# Altium footprint library custom-case.PcbLib: 168 footprints (part 1 of 11)
Each footprint in its own frame and in the unit in brackets; x right, y up, seen from the top. Pads: shape width x height; smd on the part's side, far side on the other; paste and mask are expansions set on the pad; w line width, h text height; cw(c..) or ccw(c..) is an arc to the next point about the centre after c.
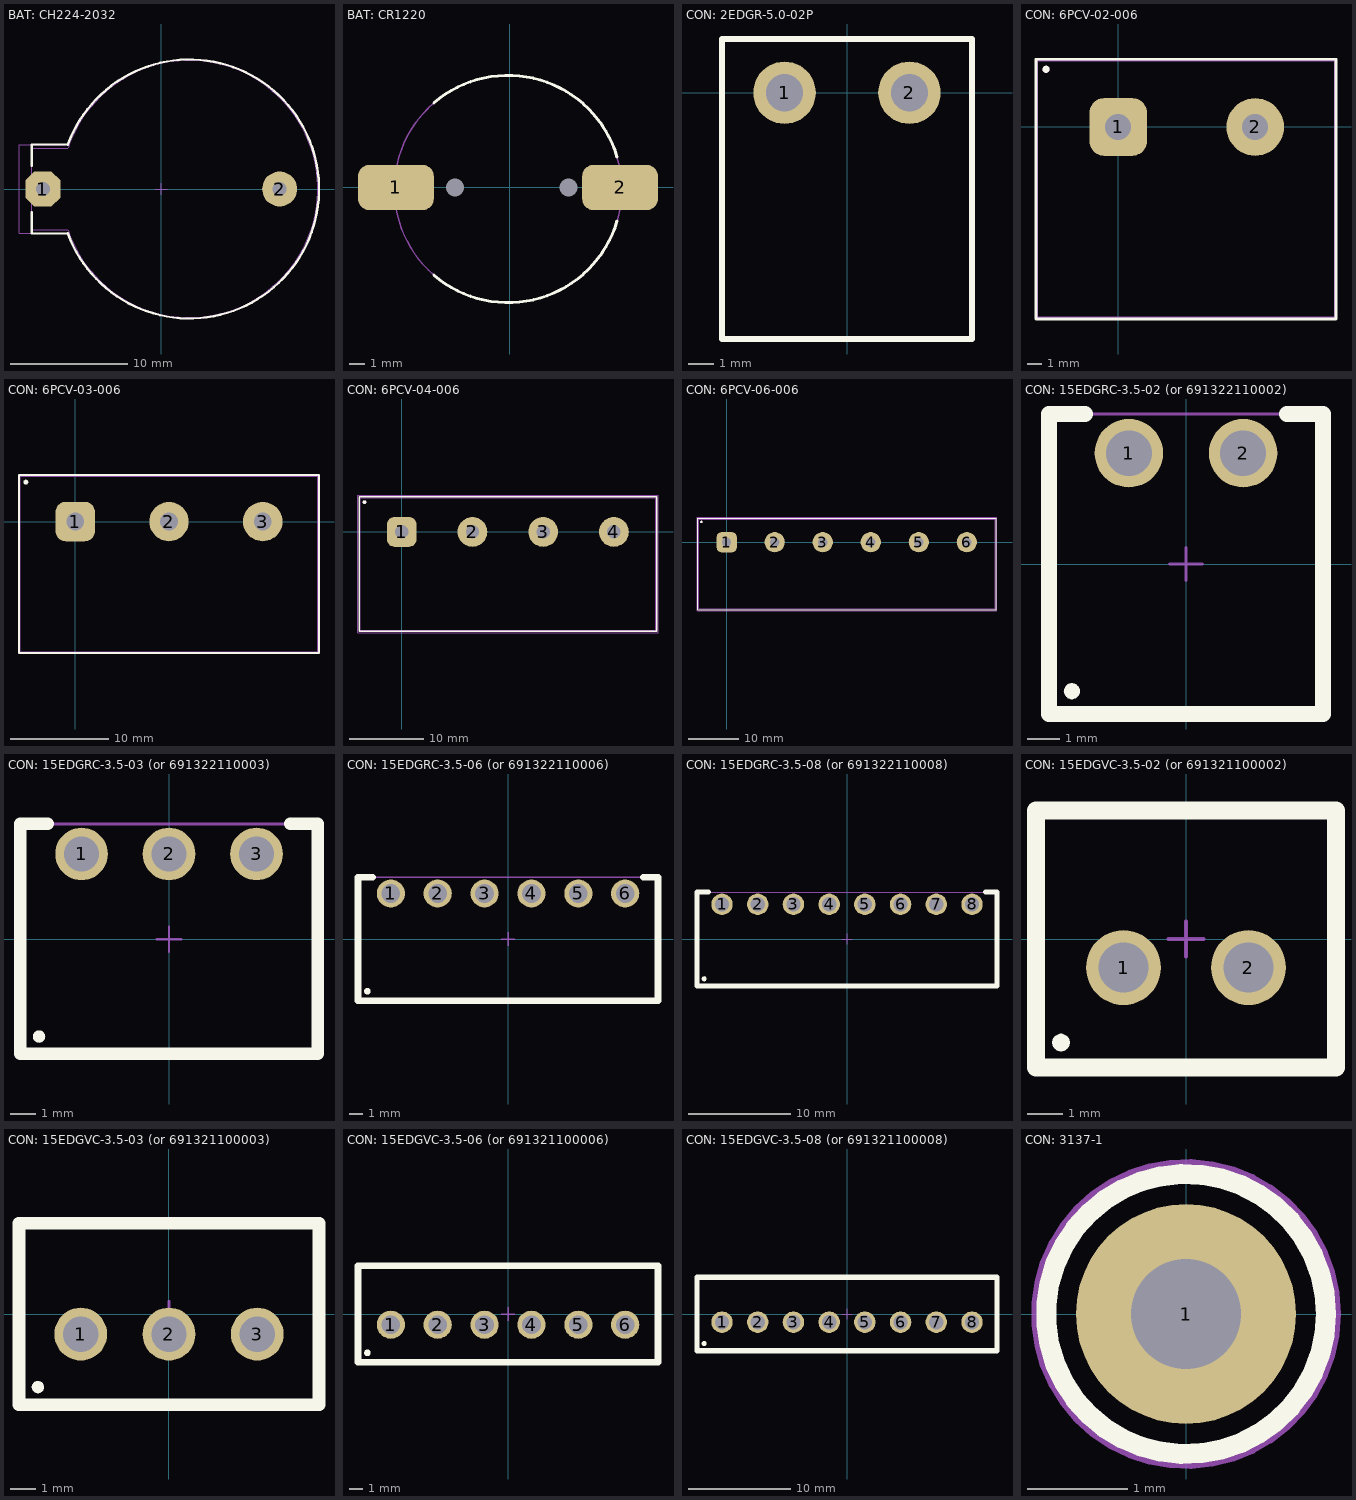
[diagram p0: the footprints below, top view; thin cyan lines are the x and y axes]

## BAT: CH224-2032 [mm] "пїЅпїЅпїЅпїЅпїЅпїЅпїЅпїЅпїЅпїЅ пїЅпїЅпїЅпїЅпїЅ пїЅпїЅпїЅ пїЅпїЅпїЅпїЅпїЅпїЅпїЅпїЅ 2032"
height 9
pads (2):
  oct 3x3 hole 1.2: 1(-10.151,0)
  round 3 hole 1.2: 2(10.152,0)
Top Overlay:
  lines w0.2: -11.1,-2 -11.1,-3.81 -8.01,-3.81 ; -11.1,2 -11.1,3.81 -8.025,3.81 ; -8.01,-3.794 ccw(c2.422,0) -8.007,3.803
Top Assy:
  lines w0.1: -7.992,-3.5 -11.1,-3.5 -11.1,3.5 -7.992,3.5 ; -7.989,-3.552 ccw(c2.422,0) -7.989,3.552
Size Area:
  lines w0.1: -8.255,-3.81 -12.192,-3.81 -12.192,3.81 -8.255,3.81 ; -8.01,3.794 cw(c2.422,0) -8.005,-3.808 ; -0.5,0 0.5,0 ; 0,-0.5 0,0.5
3D body "CH224-2032.step": height 8.5, standoff -4, extent -11.079,-11 13.421,11

## BAT: CR1220 [mm]
pads (4):
  rrect50% 5x3 smd mask+0.075: 1(-7.5,0) 2(7.3,0)
  round 0 hole 1.2 mask+0.075: MH(-3.6,0) MH(3.9,0)
Top Overlay:
  lines w0.2: -4.997,-5.781 ccw(c-0.1,-0.1) 7.1,-2.2 ; -4.997,5.581 cw(c-0.1,-0.1) 7.1,2
Top Assy:
  lines w0.1: -5.002,-5.776 cw(c-0.1,-0.1) -4.997,-5.781
3D body "User Library-CR1220-2.STEP": height 3.6, standoff 1.6, extent -6.175,-6.175 6.225,6.225
3D body "ALSRobot-CR1220.STEP": height 4.04, standoff -0.9, extent -9.35,-7.6 9.15,7.397

## CON: 2EDGR-5.0-02P [mm] "Green connector"
pads (2):
  round 2.5 hole 1.5: 1(-2.5,0) 2(2.5,0)
Top Overlay:
  lines w0.254: -5,-9.85 5,-9.85 5,2.15 -5,2.15 -5,-9.85
3D body "2EDGR-5.0-02P-14-00AH.SLDPRT": height 8.4, standoff -3.3, extent -5,-9.85 5,2.15

## CON: 6PCV-02-006 [mm]
pads (4):
  rrect50% 4x4 hole 1.8: 1(0,0)
  round 4 hole 1.8: 2(9.5,0)
  round 0.5 on Mech1: ""(-5,4)
  round 0.5 on Top Overlay: ""(-5,4)
Top Overlay:
  lines w0.2: -5.7,-13.3 15.1,-13.3 15.1,4.7 -5.7,4.7 -5.7,-13.3
Top Assy:
  lines w0.1: -5.6,-13.2 15,-13.2 15,4.58 -5.6,4.58 -5.6,-13.2
  text "1" at -0.2,-3.6 h2
  text "2" at 9.2,-3.6 h2
Size Area:
  lines w0.1: -5.7,-13.3 -5.7,4.7 15.1,4.7 15.1,-13.3 -5.7,-13.3
3D body "02.STEP": height 15.96, standoff -4.99, extent -5.6,-13.2 15,4.58

## CON: 6PCV-03-006 [mm]
pads (4):
  rrect50% 4x4 hole 1.8: 1(0,0)
  round 4 hole 1.8: 2(9.5,0) 3(19,0)
  round 0.5 on Top Overlay: ""(-5,4)
Top Overlay:
  lines w0.2: -5.7,-13.3 24.7,-13.3 24.7,4.7 -5.7,4.7 -5.7,-13.3
Top Assy:
  lines w0.1: -5.562,-13.2 24.562,-13.2 24.562,4.58 -5.562,4.58 -5.562,-13.2
  text "3" at 18.8,-3.6 h2
  text "2" at 9.2,-3.6 h2
  text "1" at -0.2,-3.6 h2
Size Area:
  lines w0.1: -5.675,-13.3 24.675,-13.3 24.675,4.675 -5.675,4.675 -5.675,-13.3
3D body "03.STEP": height 15.96, standoff -4.99, extent -5.562,-13.2 24.562,4.58

## CON: 6PCV-04-006 [mm]
pads (6):
  rrect50% 4x4 hole 1.8: 1(0,0)
  round 4 hole 1.8: 2(9.5,0) 3(19,0) 4(28.5,0)
  round 0.5 on Mech1: ""(-5,4)
  round 0.5 on Top Overlay: ""(-5,4)
Top Overlay:
  lines w0.2: -5.7,-13.35 -5.7,4.725 34.25,4.725 34.25,-13.35 -5.7,-13.35
Top Assy:
  lines w0.1: -5.55,-13.2 -5.55,4.58 34.1,4.58 34.1,-13.2 -5.55,-13.2
  text "1" at -0.2,-3.6 h2
  text "2" at 9.2,-3.6 h2
  text "3" at 18.8,-3.6 h2
  text "4" at 28.2,-3.6 h2
Size Area:
  lines w0.1: -5.875,-13.525 -5.875,4.9 34.425,4.9 34.425,-13.525 -5.875,-13.525
3D body "6pcv-04-006.STEP": height 15.96, standoff -4.99, extent -5.525,-13.18 34.125,4.6

## CON: 6PCV-06-006 [mm]
pads (8):
  rrect50% 4x4 hole 1.8: 1(0,0)
  round 4 hole 1.8: 2(9.5,0) 3(19,0) 4(28.5,0) 5(38,0) 6(47.5,0)
  round 0.5 on Mech1: ""(-5,4)
  round 0.5 on Top Overlay: ""(-5,4)
Top Overlay:
  lines w0.2: -5.7,-13.35 53.3,-13.35 53.3,4.725 -5.7,4.725 -5.7,-13.35
Top Assy:
  lines w0.1: -5.55,-13.2 53.15,-13.2 53.15,4.58 -5.55,4.58 -5.55,-13.2
  text "6" at 47.2,-3.5 h2
  text "5" at 37.7,-3.6 h2
  text "4" at 28.2,-3.6 h2
  text "3" at 18.8,-3.6 h2
  text "2" at 9.2,-3.6 h2
  text "1" at -0.2,-3.6 h2
Size Area:
  lines w0.1: -5.875,-13.525 53.475,-13.525 53.475,4.9 -5.875,4.9 -5.875,-13.525
3D body "6pcv-06-006.STEP": height 15.96, standoff -4.99, extent -5.55,-13.2 53.15,4.58

## CON: 15EDGRC-3.5-02 (or 691322110002) [mm] "Horizontal PCB Header, pitch 3.5mm, 02p"
height 7
pads (3):
  round 2.1 hole 1.4: 1(-1.75,3.4) 2(1.75,3.4)
  round 0.5 on Top Overlay: ""(-3.5,-3.9)
Top Overlay:
  lines w0.5: -3.1,4.6 -4.2,4.6 -4.2,-4.6 4.2,-4.6 4.2,4.6 3.1,4.6
3D model:
  lines w0.1: -4.2,-4.6 -4.2,4.6 4.2,4.6 4.2,-4.6 -4.2,-4.6
Size Area:
  lines w0.1: -0.5,0 0.5,0 ; 0,-0.5 0,0.5 ; -4.2,-4.6 -4.2,4.6 -2.2,4.6 2.2,4.6 4.2,4.6 4.2,-4.6 -4.2,-4.6
3D body "691322110002.stp": height 7.3, standoff -3.4, extent -4.2,-4.6 4.2,4.6

## CON: 15EDGRC-3.5-03 (or 691322110003) [mm] "Horizontal PCB Header, pitch 3.5mm, 03p"
height 7
pads (4):
  round 2.1 hole 1.4: 1(-3.5,3.4) 2(0,3.4) 3(3.5,3.4)
  round 0.5 on Top Overlay: ""(-5.2,-3.9)
Top Overlay:
  lines w0.5: -4.85,4.6 -5.95,4.6 -5.95,-4.6 5.95,-4.6 5.95,4.6 4.85,4.6
3D model:
  lines w0.1: -5.95,-4.6 5.95,-4.6 5.95,4.6 -5.95,4.6 -5.95,-4.6
Size Area:
  lines w0.1: -0.5,0 0.5,0 ; 0,-0.5 0,0.5 ; -6,-4.6 6,-4.6 6,4.6 -6,4.6 -6,-4.6
3D body "691322110003.stp": height 7.3, standoff -3.4, extent -5.95,-4.6 5.95,4.6

## CON: 15EDGRC-3.5-06 (or 691322110006) [mm] "Horizontal PCB Header, pitch 3.5mm, 06p"
height 7
pads (7):
  round 2.1 hole 1.4: 1(-8.75,3.4) 2(-5.25,3.4) 3(-1.75,3.4) 4(1.75,3.4) 5(5.25,3.4) 6(8.75,3.4)
  round 0.5 on Top Overlay: ""(-10.5,-3.9)
Top Overlay:
  lines w0.5: -10.1,4.6 -11.2,4.6 -11.2,-4.6 11.2,-4.6 11.2,4.6 10.1,4.6
3D model:
  lines w0.1: -11.2,-4.6 -11.2,4.6 11.2,4.6 11.2,-4.6 -11.2,-4.6
Size Area:
  lines w0.1: -0.5,0 0.5,0 ; 0,-0.5 0,0.5 ; -11.2,-4.6 -11.2,4.6 11.2,4.6 11.2,-4.6 -11.2,-4.6
3D body "691322110006.stp": height 7.3, standoff -3.4, extent -11.2,-4.6 11.2,4.6

## CON: 15EDGRC-3.5-08 (or 691322110008) [mm] "Horizontal PCB Header, pitch 3.5mm, 08p"
height 7
pads (9):
  round 2.1 hole 1.4: 1(-12.25,3.4) 2(-8.75,3.4) 3(-5.25,3.4) 4(-1.75,3.4) 5(1.75,3.4) 6(5.25,3.4) 7(8.75,3.4) 8(12.25,3.4)
  round 0.5 on Top Overlay: ""(-14,-3.9)
Top Overlay:
  lines w0.5: -13.6,4.6 -14.7,4.6 -14.7,-4.6 14.7,-4.6 14.7,4.6 13.6,4.6
3D model:
  lines w0.1: -14.7,-4.6 14.7,-4.6 14.7,4.6 -14.7,4.6 -14.7,-4.6
Size Area:
  lines w0.1: -0.5,0 0.5,0 ; 0,-0.5 0,0.5 ; -14.7,-4.6 14.7,-4.6 14.7,4.6 -14.7,4.6 -14.7,-4.6
3D body "691322110008.stp": height 7.3, standoff -3.4, extent -14.7,-4.6 14.7,4.6

## CON: 15EDGVC-3.5-02 (or 691321100002) [mm] "Vertical PCB Header, pitch 3.5mm, 02p"
height 9.2
pads (3):
  round 2.1 hole 1.4: 1(-1.75,-0.8) 2(1.75,-0.8)
  round 0.5 on Top Overlay: ""(-3.5,-2.9)
Top Overlay:
  lines w0.5: -4.2,-3.6 -4.2,3.6 4.2,3.6 4.2,-3.6 -4.2,-3.6
3D model:
  lines w0.1: -4.2,-3.6 4.2,-3.6 4.2,3.6 -4.2,3.6 -4.2,-3.6
Size Area:
  lines w0.1: -0.5,0 0.5,0 ; 0,-0.5 0,0.5 ; -4.2,-3.6 -4.2,3.6 4.2,3.6 4.2,-3.6 -4.2,-3.6
3D body "691321100002.stp": height 9.3, standoff -3.4, extent -4.2,-3.6 4.2,3.6

## CON: 15EDGVC-3.5-03 (or 691321100003) [mm] "Vertical PCB Header, pitch 3.5mm, 03p"
height 9.2
pads (4):
  round 2.1 hole 1.4: 1(-3.5,-0.8) 2(0,-0.8) 3(3.5,-0.8)
  round 0.5 on Top Overlay: ""(-5.2,-2.9)
Top Overlay:
  lines w0.5: -5.95,-3.6 -5.95,3.6 5.95,3.6 5.95,-3.6 -5.95,-3.6
3D model:
  lines w0.1: -5.95,-3.6 5.95,-3.6 5.95,3.6 -5.95,3.6 -5.95,-3.6
Size Area:
  lines w0.1: -0.5,0 0.5,0 ; 0,-0.5 0,0.5 ; -5.95,-3.6 -5.95,3.6 5.95,3.6 5.95,-3.6 -5.95,-3.6
3D body "691321100003.stp": height 9.3, standoff -3.4, extent -5.95,-3.6 5.95,3.6

## CON: 15EDGVC-3.5-06 (or 691321100006) [mm] "Vertical PCB Header, pitch 3.5mm, 06p"
height 9.2
pads (7):
  round 2.1 hole 1.4: 1(-8.75,-0.8) 2(-5.25,-0.8) 3(-1.75,-0.8) 4(1.75,-0.8) 5(5.25,-0.8) 6(8.75,-0.8)
  round 0.5 on Top Overlay: ""(-10.5,-2.9)
Top Overlay:
  lines w0.5: -11.2,-3.6 11.2,-3.6 11.2,3.6 -11.2,3.6 -11.2,-3.6
3D model:
  lines w0.1: -11.2,-3.6 -11.2,3.6 11.2,3.6 11.2,-3.6 -11.2,-3.6
Size Area:
  lines w0.1: -0.5,0 0.5,0 ; 0,-0.5 0,0.5 ; -11.2,-3.6 11.2,-3.6 11.2,3.6 -11.2,3.6 -11.2,-3.6
3D body "691321100006.stp": height 9.3, standoff -3.4, extent -11.2,-3.6 11.2,3.6

## CON: 15EDGVC-3.5-08 (or 691321100008) [mm] "Vertical PCB Header, pitch 3.5mm, 08p"
height 9.2
pads (9):
  round 2.1 hole 1.4: 1(-12.25,-0.8) 2(-8.75,-0.8) 3(-5.25,-0.8) 4(-1.75,-0.8) 5(1.75,-0.8) 6(5.25,-0.8) 7(8.75,-0.8) 8(12.25,-0.8)
  round 0.5 on Top Overlay: ""(-14,-2.9)
Top Overlay:
  lines w0.5: -14.7,-3.6 14.7,-3.6 14.7,3.6 -14.7,3.6 -14.7,-3.6
3D model:
  lines w0.1: -14.7,-3.6 -14.7,3.6 14.7,3.6 14.7,-3.6 -14.7,-3.6
Size Area:
  lines w0.1: -0.5,0 0.5,0 ; 0,-0.5 0,0.5 ; -14.7,-3.6 -14.7,3.6 14.7,3.6 14.7,-3.6 -14.7,-3.6
3D body "691321100008.stp": height 9.3, standoff -3.4, extent -14.7,-3.6 14.7,3.6

## CON: 3137-1 [mm]
pads (1):
  round 2.2 hole 1.1: 1(0,0)
Top Overlay:
  circle w0.2: c0,0 r1.4
Top Assy:
  circle w0.1: c0,0 r1.4
Size Area:
  circle w0.1: c0,0 r1.5
3D body "mill-max-3137-1-00-15-00-00-08-0.STEP": height 1.1, standoff -6.57, extent -0.775,-0.775 0.8,0.8